# Altium integrated library connectors.IntLib: 34 symbols
Pins are listed as number, name and electrical type; pins without a type are passive.

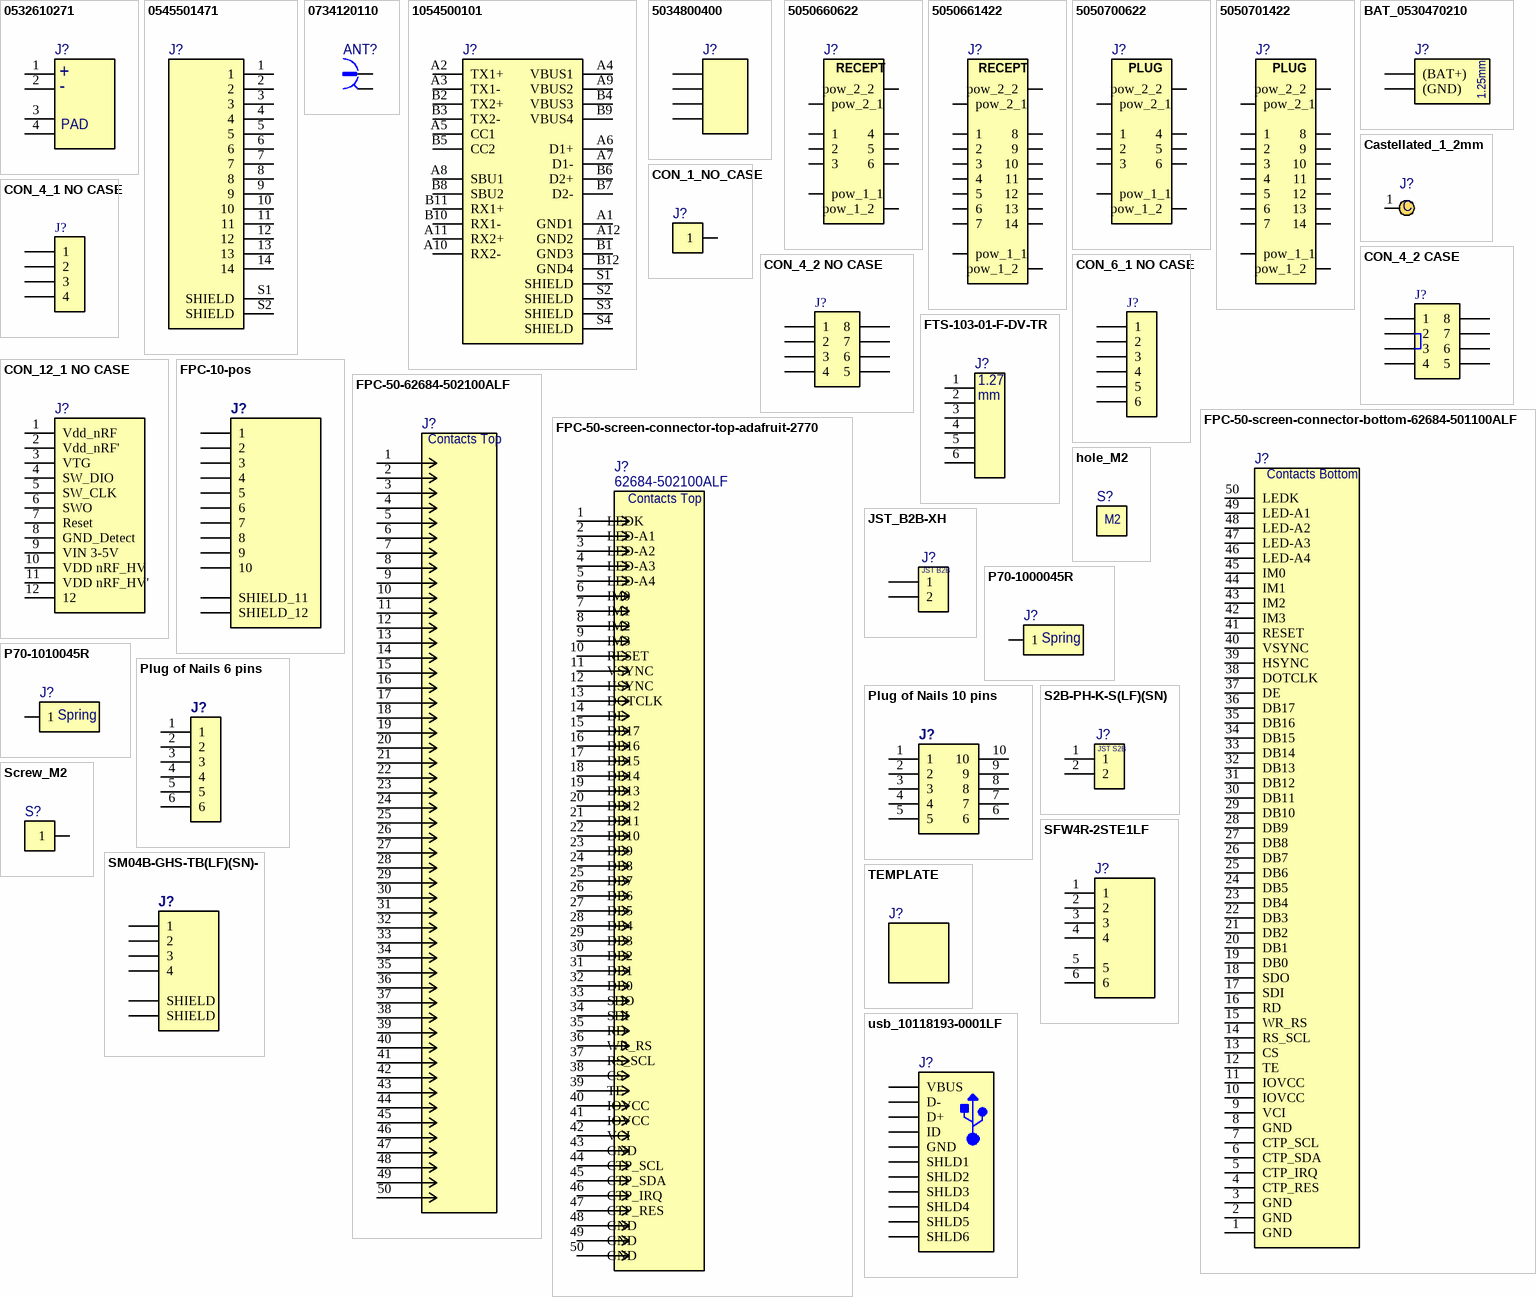
[diagram p0: symbols 0532610271 to usb_10118193-0001LF]

## 0532610271
designator J?
JST Picoblade CONN HEADER SMD R/A 2POS 1.25MM; Manufacturer: Molex; Manufacturer Part Number: 0532610271; Supplier Part Number: 0532610271; Link: https://www.digikey.com/en/products/detail/molex/0532610271/699094; Supplier: Digikey; Price 1000+ Units USD: 0.21; Price 1 Unit USD: 0.47
footprint 0532610271 (JST CONN HEADER SMD R/A 2POS 1.25MM Picoblade)
pins: 1, 2, 3, 4
text: +; -; PAD

## 0545501471
designator J?
CONN FFC TOP 14POS 0.50MM R/A; Manufacturer: Molex; Manufacturer Part Number: 0545501471; zz Current Rating Per Pin: 0.5A; Supplier Part Number: WM8817CT-ND; Link: https://www.digikey.com/en/products/detail/molex/0545501471/3196977; Supplier: Digikey; Price 1000+ Units USD: 1.00; Price 1 Unit USD: 1.85
footprint 0545501471 (CONN FFC TOP 14POS 0.50MM R/A)
pins: 1, 2, 3, 4, 5, 6, 7, 8, 9, 10, 11, 12, 13, 14, S1 SHIELD, S2 SHIELD

## 0734120110
designator ANT?
UFL CONN UMC RCPT STR 50 OHM SMD; Manufacturer: Molex; Manufacturer Part Number: 0734120110; Supplier Part Number: WM5587CT-ND; Link: https://www.digikey.com/product-detail/en/molex/0734120110/WM5587CT-ND/1894612; Supplier: Digikey; Price 1000+ Units USD: 0.36; Price 1 Unit USD: 0.77
footprint UFL0734120110 (CONN UMC RCPT STR 50 OHM SMD)
pins: 1, S@1 2, S@2 2, S@3 2

## 1054500101
designator J?
USB-C CONN RCP USB3.1 TYPEC 24P SMD RA; Manufacturer: Molex; Manufacturer Part Number: 1054500101; zz Current Rating Per Pin: 0.25A, 1A, 5A; Supplier Part Number: WM12856CT-ND; Link: https://www.digikey.com/en/products/detail/molex/1054500101/5843890; Supplier: Digikey; Price 1000+ Units USD: 2.19; Price 1 Unit USD: 1.10
footprint USB-C-1054500101 (USB-C CONN RCP USB3.1 TYPEC 24P SMD RA)
pins: A1 GND1, A2 TX1+, A3 TX1-, A4 VBUS1, A5 CC1, A6 D1+, A7 D1-, A8 SBU1, A9 VBUS2, A10 RX2-, A11 RX2+, A12 GND2, B1 GND3, B2 TX2+, B3 TX2-, B4 VBUS3, B5 CC2, B6 D2+, B7 D2-, B8 SBU2, B9 VBUS4, B10 RX1-, B11 RX1+, B12 GND4, S1 SHIELD, S2 SHIELD, S3 SHIELD, S4 SHIELD

## 5034800400
designator J?
CONN FFC FPC 4POS 0.50MM R/A; Manufacturer: Molex; Manufacturer Part Number: 5034800400; zz Current Rating Per Pin: 0.5 A; Supplier Part Number: WM1386CT-ND; Link: https://www.digikey.com/product-detail/en/molex/5034800400/WM1386CT-ND/2356640; Supplier: Digikey; Price 1000+ Units USD: 0.30; Price 1 Unit USD: 0.70
footprint FPC_5034800400 (CONN FFC FPC 4POS 0.50MM R/A)
pins: 1, 2, 3, 4

## 5050660622
designator J?
Slimstack 6 CONN RCPT 6POS SMD GOLD; Manufacturer: Molex; Manufacturer Part Number: 5050660622; Supplier Part Number: WM26392CT-ND; Link: https://www.digikey.com/product-detail/en/molex/5050660622/WM26392CT-ND/10056967; Supplier: Digikey; Price 1000+ Units USD: 0.27; Price 1 Unit USD: 0.60
footprint SLIMSTACK_6_RECPT_5050660622 (CONN RCPT 6POS SMD GOLD)
pins: 1, 2, 3, 4, 5, 6, pow_1_1, pow_1_2, pow_2_1, pow_2_2
text: RECEPT

## 5050661422
designator J?
Slimstack 14 CONN RCPT 14POS SMD GOLD; Manufacturer: Molex; Manufacturer Part Number: 505066-1422; Supplier Part Number: 538-505066-1422; Link: https://eu.mouser.com/ProductDetail/Molex/505066-1422?qs=%2Fha2pyFaduim3qdTHQnVoDldUcMkW%2F%252BNV2yOgtWkPqSWVGRgPsLn9A%3D%3D; Supplier: Mouser; Price 1000+ Units USD: 0.23; Price 1 Unit USD: 0.53
footprint SLIMSTACK_14_RECPT_5050661422 (CONN RCPT 14 POS SMD GOLD)
pins: 1, 2, 3, 4, 5, 6, 7, 8, 9, 10, 11, 12, 13, 14, pow_1_1, pow_1_2, pow_2_1, pow_2_2
text: RECEPT

## 5050700622
designator J?
Slimstack 6 CONN PLUG 6POS SMD GOLD; Manufacturer: Molex; Manufacturer Part Number: 5050700622; Supplier Part Number: 900-5050700622CT-ND; Link: https://www.digikey.com/product-detail/en/molex/5050700622/900-5050700622CT-ND/12417584; Supplier: Digikey; Price 1000+ Units USD: 0.25; Price 1 Unit USD: 0.53
footprint SLIMSTACK_6_PLUG_5050700622 (CONN PLUG 6 POS SMD GOLD)
pins: 1, 2, 3, 4, 5, 6, pow_1_1, pow_1_2, pow_2_1, pow_2_2
text: PLUG

## 5050701422
designator J?
Slimstack 14 CONN PLUG 14 POS SMD GOLD; Manufacturer: Molex; Manufacturer Part Number: 5050701422; Supplier Part Number: 538-505070-1422; Link: https://eu.mouser.com/ProductDetail/Molex/505070-1422?qs=%2Fha2pyFaduhKSANW8o%252BLAt%252BnYG1dfxUVtAiaf%252B5hSnTdBN130QNCtA%3D%3D; Supplier: Mouser; Price 1000+ Units USD: 0.23; Price 1 Unit USD: 0.55
footprint SLIMSTACK_14_PLUG_5050701422 (CONN PLUG 14 POS SMD GOLD)
pins: 1, 2, 3, 4, 5, 6, 7, 8, 9, 10, 11, 12, 13, 14, pow_1_1, pow_1_2, pow_2_1, pow_2_2
text: PLUG

## BAT_0530470210
designator J?
CONN HEADER VERT 2POS 1.25MM; Manufacturer: Molex; Manufacturer Part Number: 0530470210; Supplier Part Number: WM1731-ND; Link: https://www.digikey.com/product-detail/en/molex/0530470210/WM1731-ND/242853; Supplier: Digikey; Price 1000+ Units USD: 0.06; Price 1 Unit USD: 0.19
footprint Bat 1.25 mm (JST LiPo Connector)
pins: 1 (BAT+), 2 (GND)
text: 1.25mm

## Castellated_1_2mm
designator J?
Castellated 0.6 mm hole 1.2 mm pad; Supplier: Digikey
footprint Castellated_1_2_mm (Castellated 0.6 mm hole 1.2mm pad)
pins: 1
text: C

## CON_1_NO_CASE
designator J?
Header 1 position
footprint CON_1_NO_CASE
pins: 1
1 alternate drawing of the same symbol

## CON_4_1 NO CASE
designator J?
connector 1 row 4 col (4 pos) 2.54 pitch No Case
footprint CON_4_1_NO_CASE (connector 2 row 4 col (8 pos) 2.54 pitch)
pins: 1, 2, 3, 4

## CON_4_2 CASE
designator J?
CONN HEADER VERT 8POS 2.54MM / connector 2 row 4 col (8 pos) 2.54 pitch; Manufacturer: Molex; Manufacturer Part Number: 0901301208; zz Current Rating Per Pin: 3A; zz Package: 2 Row 8POS 2.54MM; Supplier Part Number: WM8248-ND; Link: https://www.digikey.co.uk/product-detail/en/molex/0901301208/WM8248-ND/760960; Supplier: Digikey; Price 1000+ Units USD: 0.83; Price 1 Unit USD: 1.73
footprint CON_4_2_CASE (connector 2 row 4 col (8 pos) 2.54 pitch)
pins: 1, 2, 3, 4, 5, 6, 7, 8

## CON_4_2 NO CASE
designator J?
connector 2 row 4 col (8 pos) 2.54 pitch No Case
footprint CON_4_2_NO_CASE (connector 2 row 4 col (8 pos) 2.54 pitch)
pins: 1, 2, 3, 4, 5, 6, 7, 8

## CON_6_1 NO CASE
designator J?
connector 1 row 4 col (4 pos) 2.54 pitch No Case
footprint CON_6_1_NO_CASE (connector 1 row 6 col (6 pos) 2.54 pitch)
pins: 1, 2, 3, 4, 5, 6

## CON_12_1 NO CASE
designator J?
connector 1 row 12 col (12 positions) 2.54 pitch No Case
footprint CON_12_1_NO_CASE (connector 1 row 12 col (12 positions) 2.54 pitch)
pins: 1 Vdd_nRF, 2 Vdd_nRF', 3 VTG, 4 SW_DIO, 5 SW_CLK, 6 SWO, 7 Reset, 8 GND_Detect, 9 VIN 3-5V, 10 VDD nRF_HV, 11 VDD nRF_HV', 12

## FPC-10-pos
designator J?
CONN FFC TOP 10POS 0.50MM R/A / FPC connector SFV10R-2STE1LF  10 positions; Manufacturer: Amphenol ICC (FCI); Manufacturer Part Number: SFV10R-2STE1HLF; zz Current Rating Per Pin: 0.5A; Link: https://www.digikey.com/product-detail/en/amphenol-icc-fci/SFV10R-2STE1HLF/609-4306-1-ND/2626757; Supplier Part Number: 609-4306-1-ND; Supplier: Digikey; Price 1000+ Units USD: 0.63; Price 1 Unit USD: 0.26
footprint FPC10
pins: 1, 2, 3, 4, 5, 6, 7, 8, 9, 10, 11 SHIELD_11, 12 SHIELD_12

## FPC-50-62684-502100ALF
designator J?
FPC TOP 50POS 0.50MM R/A; Manufacturer: Amphenol ICC (FCI); Manufacturer Part Number: 62684-502100ALF; zz Current Rating Per Pin: 0.5 A; Supplier Part Number: 609-1202-1-ND; Link: https://www.digikey.com/en/products/detail/amphenol-icc-fci/62684-502100ALF/1001516; Supplier: Digikey; Price 1000+ Units USD: 0.70; Price 1 Unit USD: 1.26
footprint FPC-50-62684-502100ALF (Amphenol CONN FPC TOP 50POS 0.50MM R/A)
pins: 1, 2, 3, 4, 5, 6, 7, 8, 9, 10, 11, 12, 13, 14, 15, 16, 17, 18, 19, 20, 21, 22, 23, 24, 25, 26, 27, 28, 29, 30, 31, 32, 33, 34, 35, 36, 37, 38, 39, 40, 41, 42, 43, 44, 45, 46, 47, 48, 49, 50
text: Contacts Top

## FPC-50-screen-connector-bottom-62684-501100ALF
designator J?
FPC CONN BOTTOM 50POS 0.50MM R/A; Manufacturer: Amphenol ICC (FCI); Manufacturer Part Number: 62684-501100ALF; zz Current Rating Per Pin: 0.5A; Supplier Part Number: 609-1197-1-ND; Link: https://www.digikey.com/en/products/detail/amphenol-icc-fci/62684-501100ALF/1001511; Supplier: Digikey; Price 1000+ Units USD: 0.48; Price 1 Unit USD: 0.88
footprint FPC-50-62684-501100ALF (CONN FPC BOTTOM 50POS 0.50MM R/A)
pins: 1 GND, 2 GND, 3 GND, 4 CTP_RES, 5 CTP_IRQ, 6 CTP_SDA, 7 CTP_SCL, 8 GND, 9 VCI, 10 IOVCC, 11 IOVCC, 12 TE, 13 CS, 14 RS_SCL, 15 WR_RS, 16 RD, 17 SDI, 18 SDO, 19 DB0, 20 DB1, 21 DB2, 22 DB3, 23 DB4, 24 DB5, 25 DB6, 26 DB7, 27 DB8, 28 DB9, 29 DB10, 30 DB11, 31 DB12, 32 DB13, 33 DB14, 34 DB15, 35 DB16, 36 DB17, 37 DE, 38 DOTCLK, 39 HSYNC, 40 VSYNC, 41 RESET, 42 IM3, 43 IM2, 44 IM1, 45 IM0, 46 LED-A4, 47 LED-A3, 48 LED-A2 , 49 LED-A1 , 50 LEDK
text: Contacts Bottom

## FPC-50-screen-connector-top-adafruit-2770
designator J?  Manufacturer Part Number: 62684-502100ALF
FPC TOP 50POS 0.50MM R/A; Manufacturer: Amphenol ICC (FCI); zz Current Rating Per Pin: 0.5 A; Supplier Part Number: 609-1202-1-ND; Link: https://www.digikey.com/en/products/detail/amphenol-icc-fci/62684-502100ALF/1001516; Supplier: Digikey; Price 1000+ Units USD: 0.70; Price 1 Unit USD: 1.26
footprint FPC-50-62684-502100ALF (Amphenol CONN FPC TOP 50POS 0.50MM R/A)
pins: 1 LEDK, 2 LED-A1 , 3 LED-A2 , 4 LED-A3, 5 LED-A4, 6 IM0, 7 IM1, 8 IM2, 9 IM3, 10 RESET, 11 VSYNC, 12 HSYNC, 13 DOTCLK, 14 DE, 15 DB17, 16 DB16, 17 DB15, 18 DB14, 19 DB13, 20 DB12, 21 DB11, 22 DB10, 23 DB9, 24 DB8, 25 DB7, 26 DB6, 27 DB5, 28 DB4, 29 DB3, 30 DB2, 31 DB1, 32 DB0, 33 SDO, 34 SDI, 35 RD, 36 WR_RS, 37 RS_SCL, 38 CS, 39 TE, 40 IOVCC, 41 IOVCC, 42 VCI, 43 GND, 44 CTP_SCL, 45 CTP_SDA, 46 CTP_IRQ, 47 CTP_RES, 48 GND, 49 GND, 50 GND
text: Contacts Top

## FTS-103-01-F-DV-TR
designator J?
CONN HEADER SMD 6POS 1.27MM; Manufacturer: Samtec Inc.; Manufacturer Part Number: FTS-103-01-F-DV-TR; zz Current Rating Per Pin: 3.4A; Supplier Part Number: SAM14930CT-ND; Link: https://www.digikey.com/en/products/detail/samtec-inc/FTS-103-01-F-DV-TR/2649936; Supplier: Digikey; Price 1000+ Units USD: 0.78; Price 1 Unit USD: 1.39
footprint CON_6_2_1.27_FTS_103_01 (CONN HEADER SMD 6POS 1.27MM)
pins: 1, 2, 3, 4, 5, 6
text: 1.27; mm

## hole_M2
designator S?
Mounting hole  M2 size, no solder stop, so no screw
footprint M2_no_screw (Screw M2)
1 alternate drawing of the same symbol
text: M2

## JST_B2B-XH
designator J?
CONN HEADER VERT 2POS 2.5MM; Manufacturer: JST Sales America Inc.; Manufacturer Part Number: B02B-XASK-1(LF)(SN); zz Current Rating Per Pin: 3A; Supplier Part Number: 455-1989-ND; Link: https://www.digikey.com/product-detail/en/jst-sales-america-inc/B02B-XASK-1-LF-SN/455-1989-ND/1634730; Supplier: Digikey; Price 1000+ Units USD: 0.06; Price 1 Unit USD: 0.19
footprint JST_B2B-XH-A (JST LiPo Connector)
pins: 1, 2
text: JST B2B

## P70-1000045R
designator J?
CONTACT SPRING LOADED SMD GOLD; Manufacturer: Harwin Inc.; Manufacturer Part Number: P70-1000045R; zz Current Rating Per Pin: 2A; Supplier Part Number: 952-3127-1-ND; Link: https://www.digikey.com/en/products/detail/harwin-inc/P70-1000045R/6211189; Supplier: Digikey; Price 1000+ Units USD: 0.59; Price 1 Unit USD: 0.86
footprint P70-1000045R (CONTACT SPRING LOADED SMD GOLD)
pins: 1
text: Spring

## P70-1010045R
designator J?
CONTACT SPRING LOADED SMD GOLD; Manufacturer: Harwin Inc.; Manufacturer Part Number: P70-1010045R; zz Current Rating Per Pin: 2A; Supplier Part Number: 952-3128-1-ND; Link: digikey.com/en/products/detail/harwin-inc/P70-1010045R/6211190; Supplier: Digikey; Price 1000+ Units USD: 0.59; Price 1 Unit USD: 0.86
footprint P70-1010045R (CONTACT SPRING LOADED SMD GOLD)
pins: 1
text: Spring

## Plug of Nails 6 pins
designator J?
CBL PLUG-OF-NAILS 6-PIN with NO ATTACHMENT holes (contrary to the digikey link); Manufacturer: Tag-Connect LLC; Manufacturer Part Number: TC2030-CTX; Link: https://www.digikey.co.uk/product-detail/en/tag-connect-llc/TC2030-CTX/TC2030-CTX-ND/5023324; Supplier Part Number: TC2030-CTX-ND; Supplier: Digikey; Price 1000+ Units USD: 0; Price 1 Unit USD: 0
footprint PLUG-OF-NAILS-6-PIN
pins: 1, 2, 3, 4, 5, 6

## Plug of Nails 10 pins
designator J?
CBL PLUG-OF-NAILS 10-PIN; Manufacturer: Tag-Connect LLC; Manufacturer Part Number: TC2050-IDC-NL; Link: https://www.digikey.co.uk/product-detail/en/tag-connect-llc/TC2050-IDC-NL/TC2050-IDC-NL-ND/2605367; Supplier Part Number: TC2050-IDC-NL-ND; Supplier: Digikey; Price 1000+ Units USD: 0; Price 1 Unit USD: 0
footprint PLUG-OF-NAILS-10-PIN
pins: 1, 2, 3, 4, 5, 6, 7, 8, 9, 10

## S2B-PH-K-S(LF)(SN)
designator J?
JST 2mm CONN HEADER R/A 2POS; Manufacturer: JST Sales America Inc.; Manufacturer Part Number: S2B-PH-K-S(LF)(SN); Supplier Part Number: 455-1719-ND; Link: https://www.digikey.com/en/products/detail/jst-sales-america-inc/S2B-PH-K-S-LF-SN/926626; Supplier: Digikey; Price 1000+ Units USD: 0.07; Price 1 Unit USD: 0.17
footprint S2B-PH-K-S(LF)(SN) (CONN 2mm HEADER R/A 2POS)
pins: 1, 2
text: JST S2B

## Screw_M2
designator S?
Mounting hole screw M2
footprint M2_screw (Screw M2)
pins: 1
1 alternate drawing of the same symbol

## SFW4R-2STE1LF
designator J?
CONN FFC FPC TOP 4POS 1.00MM R/A; Manufacturer: Amphenol ICC (FCI); Manufacturer Part Number: SFW4R-2STE1LF; Supplier Part Number: 609-1884-1-ND; Link: https://www.digikey.com/en/products/detail/amphenol-icc-fci/SFW4R-2STE1LF/1002199; Supplier: Digikey; Price 1000+ Units USD: 0.40; Price 1 Unit USD: 0.78
footprint SFW4R-2STE1LF (CONN FFC FPC TOP 4POS 1.00MM R/A)
pins: 1, 2, 3, 4, 5, 6

## SM04B-GHS-TB(LF)(SN)-
designator J?, comment Conn Header Gh Side 4pos 1.25mm  (value not drawn)
CONN HEADER SMD R/A 4POS 1.25MM / JST 4 pin connector (GPS); Manufacturer Part Number: SM04B-GHS-TB(LF)(SN)-; Manufacturer: JST Sales America Inc.; zz Current Rating Per Pin: 1A; zz Package: Custom; Link: https://www.digikey.com/product-detail/en/jst-sales-america-inc/SM04B-GHS-TB_LF__SN_-/455-1566-1-ND/807834?utm_source=snapeda&utm_medium=aggregator&utm_campaign=symbol; Supplier Part Number: 455-1566-1-ND; Supplier: Digikey; Price 1000+ Units USD: 0.20; Price 1 Unit USD: 0.45
footprint JST_4_pins
pins: 1, 2, 3, 4, SH1 SHIELD (power), SH2 SHIELD (power)

## TEMPLATE
designator J?
Supplier: Digikey

## usb_10118193-0001LF
designator J?, comment 10118193-0001LF  (value not drawn)
CONN RCPT USB2.0 MICRO B SMD R/A / Micro USB B Type Receptacle, -55 to 85 degC, 5-Pin SMD, RoHS, Tape and Reel; Manufacturer: Amphenol ICC (FCI); zz Current Rating Per Pin: USB Standard; Link: https://www.digikey.co.uk/product-detail/en/amphenol-icc-fci/10118193-0001LF/609-4616-2-ND/2785388; zz Package: USB; Manufacturer Part Number: 10118193-0001LF; Supplier Part Number: 609-4616-2-ND; Supplier: Digikey; Price 1000+ Units USD: 0.20; Price 1 Unit USD: 0.42
footprint FCI-10118193-0001LF-5_V (Micro, USB-B, 5-Leads, Body 7.86x5.05mm, Pitch 0.65 mm)
pins: 1 VBUS, 2 D-, 3 D+, 4 ID, 5 GND, 6 SHLD1, 7 SHLD2, 8 SHLD3, 9 SHLD4, 10 SHLD5, 11 SHLD6